# Altium integrated library Integrated_Library1.IntLib: 10 symbols
Pins are listed as number, name and electrical type; pins without a type are passive.

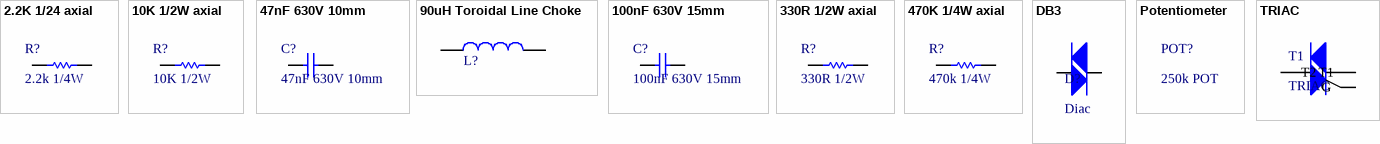
[diagram p0: symbols 2.2K 1/24 axial to TRIAC]

## 2.2K 1/24 axial
designator R?, comment 2.2k 1/4W
2.2K axial resistor; value: 2.2k 1/4W
footprint 1/4W axial
pins: 1, 2

## 10K 1/2W axial
designator R?, comment 10K 1/2W
10K 1/4W resistor; value: 10K 1/2W
footprint 1/4W axial
pins: 1, 2

## 47nF 630V 10mm
designator C?
CAP.POL.47nF 630VDC 10MM 10% MKT FARATRONIC; value: 47nF 630V 10mm
footprint 10mm_CAP
pins: 1, 2

## 90uH Toroidal Line Choke
designator L?, comment 90µH  (value not drawn)
WE-FI THT Leaded Toroidal Line Choke, 90µH, 4.6A, 0.04Ω; Manufacturer Part Number: 7447013; Manufacturer: Wurth Elektronik; Category: Filter Chokes; Match Code: WE-FI; ComponentLink1Description: Website Link; ComponentLink1URL: https://www.we-online.com/redexpert/article/7447013?ad; ComponentLink2Description: Datasheet Link; ComponentLink2URL: https://www.we-online.com/redexpert/spec/7447013?ad; Mount: Through Hole; Operating Temperature Max: 105°C; Operating Temperature Min: -40°C; Packaging: Tray; Length: 18.5mm; Width: 10.5mm; Height: 18.5mm; DC Resistance Max: 0.04Ω; Inductance: 90µH; Rated Current: 4.6A
footprint 7447013 (Leaded Toroidal Line Choke, 2-leads, body 18.5x10.5mm)
pins: 1, 2

## 100nF 630V 15mm
designator C?
CAP.POL.100nF 630VDC 15MM 10% MKP DAMLA BULK FARAT; value: 100nF 630V 15mm
footprint 15mm_cap
pins: 1, 2

## 330R 1/2W axial
designator R?, comment 330R 1/2W
330R 1/2W axial; value: 330R 1/2W
footprint 1/2 axial
pins: 1, 2

## 470K 1/4W axial
designator R?, comment 470k 1/4W
407 1/4W axial resistor; value: 470k 1/4W
footprint 1/4W axial
pins: 1, 2

## DB3
designator D?, comment Diac
Diac/Sidac Thyristor 30 ~ 34V DO-35; MF: STMicroelectronics; MP: DB3TG; Package: DO-35 STMicroelectronics; Price: None; Check_prices: https://www.snapeda.com/parts/DB3TG/STMicroelectronics/view-part/?ref=eda; Value: Diac; SnapEDA_Link: https://www.snapeda.com/parts/DB3TG/STMicroelectronics/view-part/?ref=snap; Availability: In Stock; Purchase-URL: https://pricing.snapeda.com/search/part/DB3TG/?ref=eda
footprint DB3
pins: 1, 2

## Potentiometer
designator POT?, comment 250k POT
POT 220K 0.125W 1 TURN CARBON LINEAR ±20%; value: 250k POT
footprint Potentiometers
1 alternate drawing of the same symbol

## TRIAC
designator T1
TRIAC Standard 800 V XA Through Hole TO-220AB; value: TRIAC
footprint TO-220
pins: 1 T1, 2 T2, 3 G